# Altium footprint library gliax_ecg_simple.PcbLib: 14 footprints
Each footprint in its own frame and in the unit in brackets; x right, y up, seen from the top. Pads: shape width x height; smd on the part's side, far side on the other; paste and mask are expansions set on the pad; w line width, h text height; cw(c..) or ccw(c..) is an arc to the next point about the centre after c.
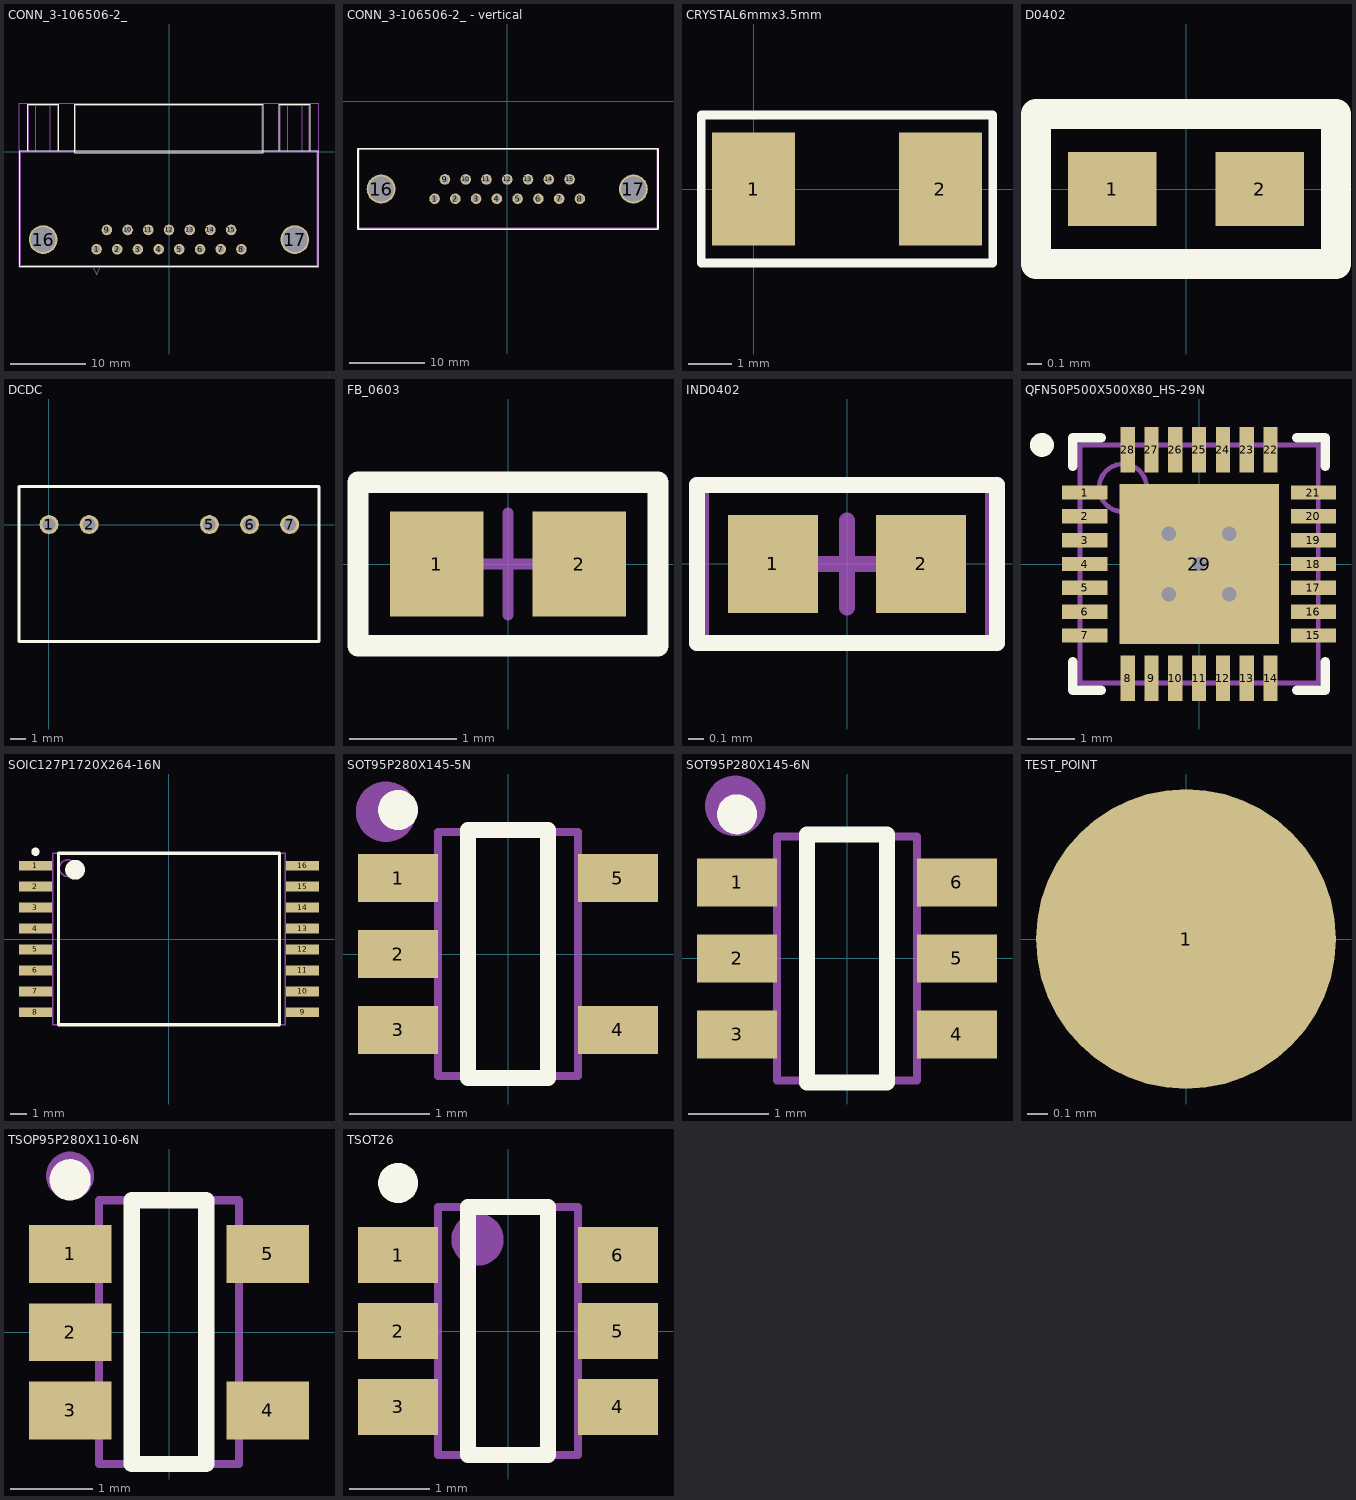
[diagram p0: the footprints below, top view; thin cyan lines are the x and y axes]

## CONN_3-106506-2_ [mil]
pads (17):
  round 55 / inner round 60 / far side round 55 hole 35 paste+0 mask+0: 1(-377.56,-507) 2(-269.69,-507) 3(-161.81,-507) 4(-53.94,-507) 5(53.94,-507) 6(161.81,-507) 7(269.69,-507) 8(377.56,-507) 9(-323.62,-407) 10(-215.75,-407) 11(-107.87,-407) 12(0,-407) 13(107.87,-407) 14(215.75,-407) 15(323.62,-407)
  round 150 / inner round 60 / far side round 150 hole 130: 16(-655.5,-457) 17(655.5,-457)
Top Overlay:
  lines w6: -735.5,5 -735.5,249 -575.5,249 -575.5,5 ; 575.5,5 575.5,249 735.5,249 735.5,5 ; -776.5,-596 -776.5,5 776.5,5 776.5,-596 -776.5,-596 ; -491,-5 -491,249 491,249 491,-5 -491,-5
Mechanical 13:
  lines w1: -730.5,0 -730.5,244 -580.5,244 -580.5,0 ; -693,0 -693,244 ; -618,0 -618,244 ; -402.56,-591 -377.56,-641 -352.56,-591 ; 580.5,0 580.5,244 730.5,244 730.5,0 ; 618,0 618,244 ; 693,0 693,244 ; -771.5,-591 -771.5,0 771.5,0 771.5,-591 -771.5,-591 ; -486,0 -486,244 486,244 486,0 -486,0
Mechanical 29:
  lines w6: -781.5,-601 781.5,-601 781.5,254 -781.5,254 -781.5,-601
  text "'.Designator'" at -180,-195 h31.5
3D body "c-3-106506-2-j-3d.stp": height 537.9, standoff -129.42, extent -775.98,-590 775.98,248.59
3D body: height 10, standoff 0, extent 0,0 10,10

## CONN_3-106506-2_ - vertical [mil]
pads (17):
  round 55 / inner round 60 / far side round 55 hole 35 paste+0 mask+0: 1(-377.56,-507) 2(-269.69,-507) 3(-161.81,-507) 4(-53.94,-507) 5(53.94,-507) 6(161.81,-507) 7(269.69,-507) 8(377.56,-507) 9(-323.62,-407) 10(-215.75,-407) 11(-107.87,-407) 12(0,-407) 13(107.87,-407) 14(215.75,-407) 15(323.62,-407)
  round 150 / inner round 60 / far side round 150 hole 130: 16(-655.5,-457) 17(655.5,-457)
Top Overlay:
  lines w7.87: -775.59,-665.35 783.46,-665.35 783.46,-248.03 -775.59,-248.03 -775.59,-665.35
Mechanical 1:
  lines w7.87: -770.5,-249.18 -770.5,-662 779.53,-662 779.53,-248.03 -770.5,-248.03
Mechanical 29:
  lines w7.87: -771.65,-661.42 781.5,-661.42 781.5,-248.03 -771.65,-248.03 -771.65,-661.42
  text "'.Designator'" at -188.98,-322.83 h31.5
3D body "c-5207827-4-o-3d.stp": height 486.5, standoff -124.5, extent -770.5,-662 770.5,-252

## CRYSTAL6mmx3.5mm [mm] "Crystal, 6mm x 3.5mm"
height 1.4
pads (2):
  rect 1.9x2.6 smd: 1(0,0) 2(4.3,0)
Top Overlay:
  lines w0.2: -1.2,-1.7 5.5,-1.7 5.5,1.7 -1.2,1.7 -1.2,-1.7
Mechanical 29:
  lines w0.1: -1.2,-1.7 5.5,-1.7 5.5,1.7 -1.2,1.7 -1.2,-1.7
  text "'.Designator'" at 0.8,-0.3 h0.6

## D0402 [mm]
pads (2):
  rect 0.6x0.5 smd: 1(-0.5,0) 2(0.5,0)
Top Overlay:
  lines w0.2: -1.016,-0.508 -1.016,0.508 1.016,0.508 1.016,-0.508 -1.016,-0.508
Mechanical 29:
  lines w0.1: -1,-0.5 -1,0.5 1,0.5 1,-0.5 -1,-0.5
  text "'.Designator'" at -0.9,-0.4 h0.6

## DCDC [mm]
pads (5):
  round 1.2 hole 0.8: 1(0,0) 2(2.54,0) 5(10.16,0) 6(12.7,0) 7(15.24,0)
Top Overlay:
  lines w0.2: -1.9,-7.4 -1.9,2.4 17.1,2.4 17.1,-7.4 -1.9,-7.4
Mechanical 29:
  lines w0.1: -1.9,-7.4 17.1,-7.4 17.1,2.4 -1.9,2.4 -1.9,-7.4
  text "'.Designator'" at 5.3,-3.2 h0.6
3D body: height 12.5, standoff 0, extent -1.9,-7.4 17.2,2.4

## FB_0603 [mm] "Chip Inductor, 2-Leads, Body 1.60x0.80mm, IPC Medium Density"
height 0.95
pads (2):
  rect 0.87x0.98 smd: 1(-0.665,0) 2(0.665,0)
Top Overlay:
  lines w0.2: -1.397,-0.762 -1.397,0.762 1.397,0.762 1.397,-0.762 -1.397,-0.762
Mechanical 15:
  lines w0.05: -1.35,-0.75 -1.35,0.75 1.35,0.75 1.35,-0.75 -1.35,-0.75
  lines w0.1: -0.475,0 0.475,0 ; 0,-0.475 0,0.475
Mechanical 29:
  lines w0.1: -1.397,-0.762 -1.397,0.762 1.397,0.762 1.397,-0.762 -1.397,-0.762
  text "'.Designator'" at -1.016,-0.381 h0.8
3D body "INDC1608X09N.step": height 0.95, standoff 0, extent -0.875,-0.475 0.875,0.475

## IND0402 [mm] "Chip Inductor, 2-Leads, Body 1.00x0.50mm, IPC Medium Density"
height 0.55
pads (2):
  rect 0.57x0.62 smd: 1(-0.47,0) 2(0.47,0)
Top Overlay:
  lines w0.1: -0.95,-0.5 0.95,-0.5 0.95,0.5 -0.95,0.5 -0.95,-0.5
Mechanical 15:
  lines w0.05: -0.9,-0.5 0.9,-0.5 0.9,0.5 -0.9,0.5 -0.9,-0.5
  lines w0.1: -0.275,0 0.275,0 ; 0,-0.275 0,0.275
Mechanical 29:
  lines w0.1: -0.95,-0.5 0.95,-0.5 0.95,0.5 -0.95,0.5 -0.95,-0.5
  text "'.Designator'" at -0.7,-0.3 h0.6
3D body "INDC1005X06N.step": height 0.55, standoff 0, extent -0.525,-0.275 0.525,0.275

## QFN50P500X500X80_HS-29N [mm] "QFN, 28-Leads, Body 5.00x5.00mm, Pitch 0.50mm, Thermal Pad 3.35x3.35mm, IPC Medium Density"
height 0.8
pads (29):
  rect 0.95x0.3 smd: 1(-2.4,1.5) 2(-2.4,1) 3(-2.4,0.5) 4(-2.4,0) 5(-2.4,-0.5) 6(-2.4,-1) 7(-2.4,-1.5) 15(2.4,-1.5) 16(2.4,-1) 17(2.4,-0.5) 18(2.4,0) 19(2.4,0.5) 20(2.4,1) 21(2.4,1.5)
  rect 0.3x0.95 smd: 8(-1.5,-2.4) 9(-1,-2.4) 10(-0.5,-2.4) 11(0,-2.4) 12(0.5,-2.4) 13(1,-2.4) 14(1.5,-2.4) 22(1.5,2.4) 23(1,2.4) 24(0.5,2.4) 25(0,2.4) 26(-0.5,2.4) 27(-1,2.4) 28(-1.5,2.4)
  rect 3.35x3.35 smd paste-0.5: 29(0,0)
via 0,0 diameter 0.5 hole 0.3
via -0.635,0.635 diameter 0.5 hole 0.3
via 0.635,-0.635 diameter 0.5 hole 0.3
via 0.635,0.635 diameter 0.5 hole 0.3
via -0.635,-0.635 diameter 0.5 hole 0.3
Top Overlay:
  circle w0.25: c-3.3,2.5 r0.125
  lines w0.2: -2.65,-2.05 -2.65,-2.65 -2.05,-2.65 ; -2.65,2.05 -2.65,2.65 -2.05,2.65 ; 2.05,-2.65 2.65,-2.65 2.65,-2.05 ; 2.05,2.65 2.65,2.65 2.65,2.05
Mechanical 29:
  circle w0.1: c-1.6,1.6 r0.5
  lines w0.1: -2.5,-2.5 2.5,-2.5 2.5,2.5 -2.5,2.5 -2.5,-2.5
  text "'.Designator'" at -1.27,-0.381 h0.6
3D body "QFN50P500X500X80_HS-29N.step": height 0.8, standoff 0, extent -2.501,-2.501 2.501,2.501

## SOIC127P1720X264-16N [mm] "SOIC, 16-Leads, Body 10.30x14.00mm, Pitch 1.27mm, IPC Medium Density"
height 2.64
pads (16):
  rect 2x0.6 smd: 1(-8.1,4.445) 2(-8.1,3.175) 3(-8.1,1.905) 4(-8.1,0.635) 5(-8.1,-0.635) 6(-8.1,-1.905) 7(-8.1,-3.175) 8(-8.1,-4.445) 9(8.1,-4.445) 10(8.1,-3.175) 11(8.1,-1.905) 12(8.1,-0.635) 13(8.1,0.635) 14(8.1,1.905) 15(8.1,3.175) 16(8.1,4.445)
Top Overlay:
  circle w0.6: c-5.7,4.2 r0.3
  circle w0.25: c-8.1,5.295 r0.125
  lines w0.2: -6.7,-5.2 6.7,-5.2 6.7,5.2 -6.7,5.2 -6.7,-5.2
Mechanical 29:
  circle w0.1: c-6.15,4.3 r0.5
  lines w0.1: -7.05,-5.2 7.05,-5.2 7.05,5.2 -7.05,5.2 -7.05,-5.2
  text "'.Designator'" at -2.794,-0.381 h0.8
3D body "SOIC127P1720X264-16N.step": height 2.64, standoff 0, extent -8.625,-5.2 8.625,5.2

## SOT95P280X145-5N [mm] "SOT23, 5-Leads, Body 2.90x2.80mm, Pitch 0.95mm, IPC Medium Density"
height 1.45
pads (5):
  rect 1x0.6 smd: 1(-1.375,0.95) 2(-1.375,0) 3(-1.375,-0.95) 4(1.375,-0.95) 5(1.375,0.95)
Top Overlay:
  circle w0.25: c-1.375,1.8 r0.125
  lines w0.2: -0.5,-1.55 0.5,-1.55 0.5,1.55 -0.5,1.55 -0.5,-1.55
Mechanical 29:
  circle w0.5: c-1.524,1.778 r0.127
  lines w0.1: -0.875,-1.525 -0.875,1.525 0.875,1.525 0.875,-1.525 -0.875,-1.525
  text "'.Designator'" at 0.381,-1.27 h0.8
3D body "SOT95P280X145-5N.step": height 1.45, standoff 0, extent -1.5,-1.525 1.5,1.525

## SOT95P280X145-6N [mm] "SOT23, 6-Leads, Body 2.90x2.80mm, Pitch 0.95mm, IPC Medium Density"
height 1.45
pads (6):
  rect 1x0.6 smd: 1(-1.375,0.95) 2(-1.375,0) 3(-1.375,-0.95) 4(1.375,-0.95) 5(1.375,0) 6(1.375,0.95)
Top Overlay:
  circle w0.25: c-1.375,1.8 r0.125
  lines w0.2: -0.5,-1.55 -0.5,1.55 0.5,1.55 0.5,-1.55 -0.5,-1.55
Mechanical 29:
  circle w0.5: c-1.397,1.905 r0.127
  lines w0.1: -0.875,-1.525 0.875,-1.525 0.875,1.525 -0.875,1.525 -0.875,-1.525
  text "'.Designator'" at 0.381,-1.397 h0.8
3D body "SOT95P280X145-6N.step": height 1.45, standoff 0, extent -1.5,-1.525 1.5,1.525

## TEST_POINT [mm]
pads (1):
  round 1.5 smd paste-2: 1(0,0)

## TSOP95P280X110-6N [mm] "TSOP, 6-Leads, Body 3.00x1.50mm, Pitch 0.95mm, IPC Medium Density"
height 1.1
pads (5):
  rect 1x0.7 smd: 1(-1.2,0.95) 2(-1.2,0) 3(-1.2,-0.95) 4(1.2,-0.95) 5(1.2,0.95)
Top Overlay:
  circle w0.25: c-1.2,1.85 r0.125
  lines w0.2: -0.45,-1.6 -0.45,1.6 0.45,1.6 0.45,-1.6 -0.45,-1.6
Mechanical 29:
  circle w0.3: c-1.2,1.9 r0.141
  lines w0.1: -0.85,-1.6 0.85,-1.6 0.85,1.6 -0.85,1.6 -0.85,-1.6
  text "'.Designator'" at 0.4,-1.3 h0.8
3D body "TSOP95P280X110-6N.step": height 1.1, standoff 0, extent -1.375,-1.6 1.375,1.6

## TSOT26 [mm]
height 1
pads (6):
  rect 1x0.7 smd: 1(-1.375,0.95) 2(-1.375,0) 3(-1.375,-0.95) 4(1.375,-0.95) 5(1.375,0) 6(1.375,0.95)
Top Overlay:
  circle w0.25: c-1.375,1.85 r0.125
  lines w0.2: -0.5,-1.55 -0.5,1.55 0.5,1.55 0.5,-1.55 -0.5,-1.55
Mechanical 29:
  circle w0.4: c-0.381,1.143 r0.127
  lines w0.1: -0.875,-1.55 0.875,-1.55 0.875,1.55 -0.875,1.55 -0.875,-1.55
  text ".Designator" at 0.381,-1.397 h0.8
3D body "TSOT26.step": height 1, standoff 0, extent -1.5,-1.55 1.5,1.55